# Altium footprint library footprints.PcbLib: 32 footprints (part 2 of 2)
Each footprint in its own frame and in the unit in brackets; x right, y up, seen from the top. Pads: shape width x height; smd on the part's side, far side on the other; paste and mask are expansions set on the pad; w line width, h text height; cw(c..) or ccw(c..) is an arc to the next point about the centre after c.
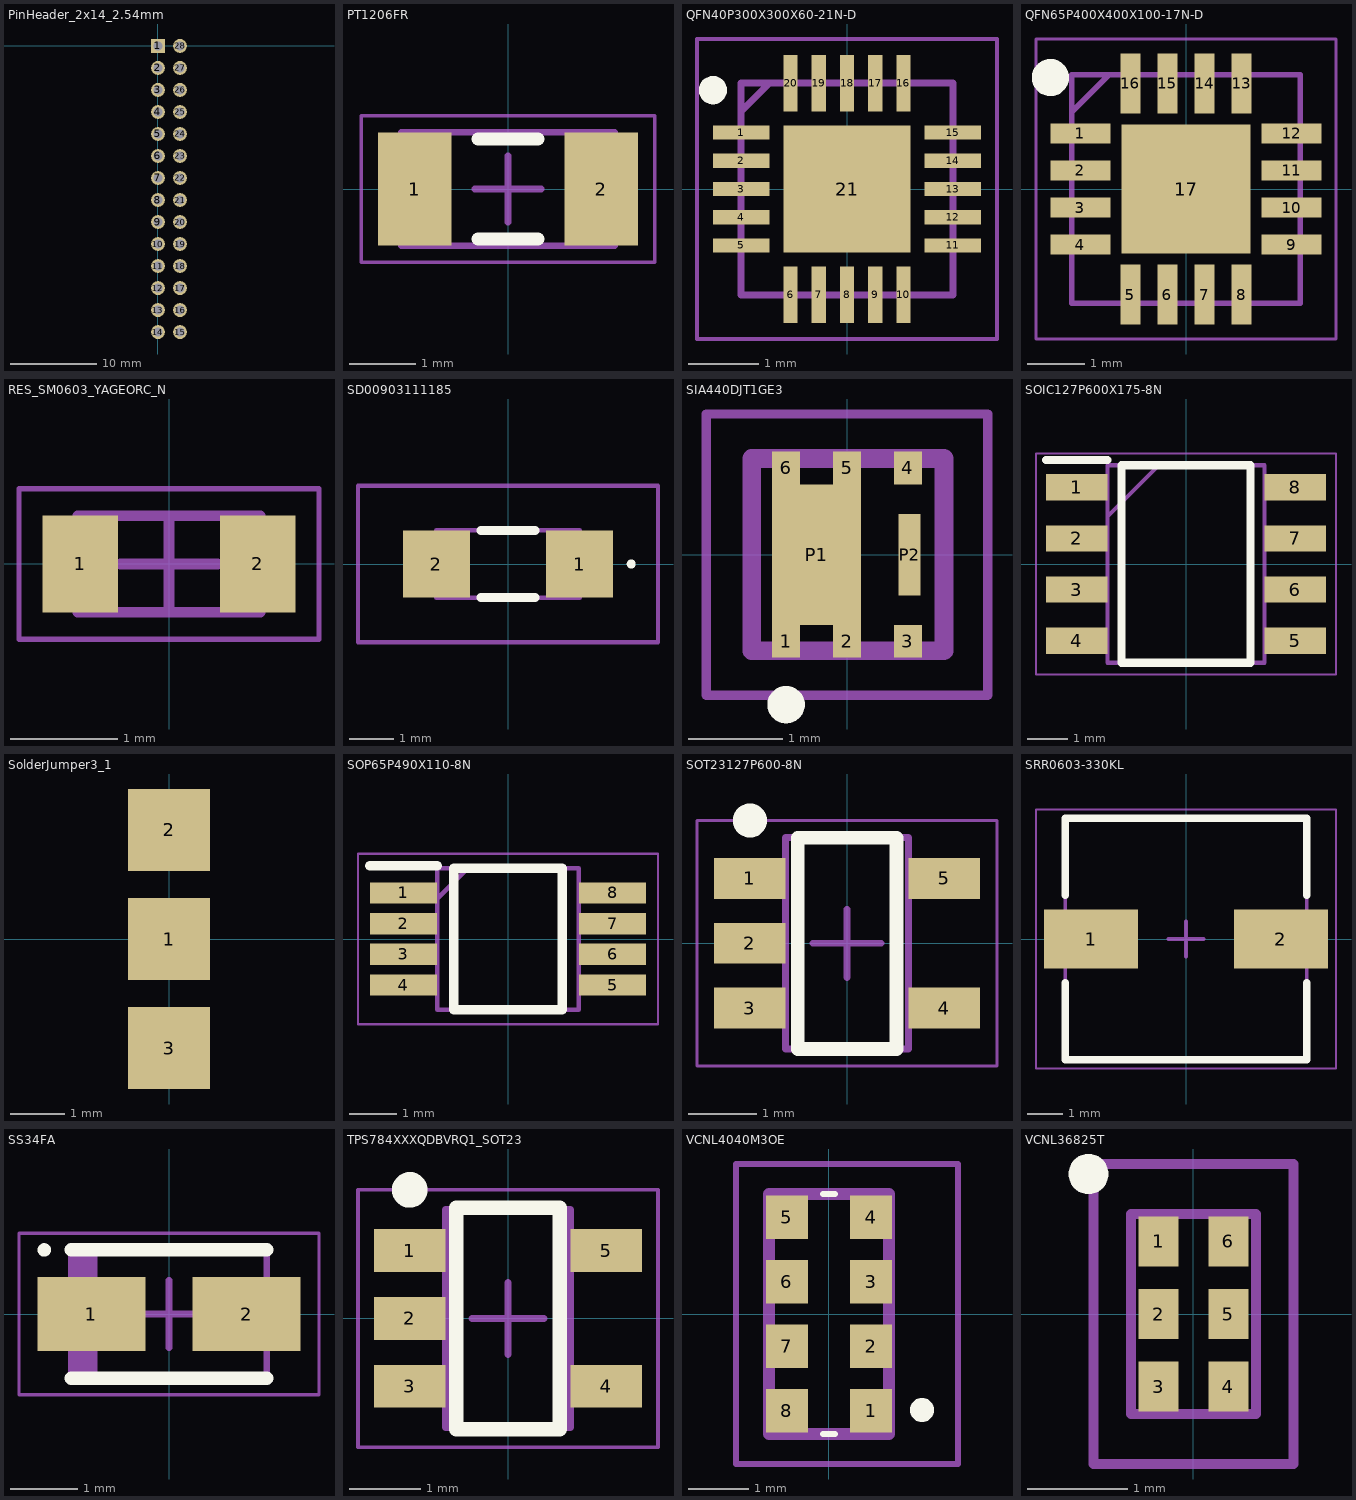
[diagram p1: the footprints below, top view; thin cyan lines are the x and y axes]

## PinHeader_2x14_2.54mm [mm]
pads (28):
  rect 1.6x1.6 hole 1.02: 1(0,0)
  round 1.6 hole 1.02: 2(0,-2.54) 3(0,-5.08) 4(0,-7.62) 5(0,-10.16) 6(0,-12.7) 7(0,-15.24) 8(0,-17.78) 9(0,-20.32) 10(0,-22.86) 11(0,-25.4) 12(0,-27.94) 13(0,-30.48) 14(0,-33.02) 15(2.54,-33.02) 16(2.54,-30.48) 17(2.54,-27.94) 18(2.54,-25.4) 19(2.54,-22.86) 20(2.54,-20.32) 21(2.54,-17.78) 22(2.54,-15.24) 23(2.54,-12.7) 24(2.54,-10.16) 25(2.54,-7.62) 26(2.54,-5.08) 27(2.54,-2.54) 28(2.54,0)

## PT1206FR [mm]
height 0.65
pads (2):
  rect 1.1x1.7 smd: 1(-1.4,0) 2(1.4,0)
Top Overlay:
  lines w0.2: -0.45,-0.75 0.45,-0.75 ; -0.45,0.75 0.45,0.75
Top Courtyard:
  lines w0.05: -2.2,-1.1 -2.2,1.1 2.2,1.1 2.2,-1.1 -2.2,-1.1
  lines w0.1: -0.5,0 0.5,0 ; 0,-0.5 0,0.5
Top Assembly:
  lines w0.1: -1.6,-0.85 -1.6,0.85 1.6,0.85 1.6,-0.85 -1.6,-0.85
3D body: height 0.65, standoff 0, extent -1.15,-0.85 1.15,0.85
3D body: height 0.65, standoff 0, extent -1.6,-0.85 -1.15,0.85
3D body: height 0.65, standoff 0, extent 1.15,-0.85 1.6,0.85

## QFN40P300X300X60-21N-D [mm]
pads (21):
  rect 0.8x0.2 smd: 1(-1.5,0.8) 2(-1.5,0.4) 3(-1.5,0) 4(-1.5,-0.4) 5(-1.5,-0.8) 11(1.5,-0.8) 12(1.5,-0.4) 13(1.5,0) 14(1.5,0.4) 15(1.5,0.8)
  rect 0.2x0.8 smd: 6(-0.8,-1.5) 7(-0.4,-1.5) 8(0,-1.5) 9(0.4,-1.5) 10(0.8,-1.5) 16(0.8,1.5) 17(0.4,1.5) 18(0,1.5) 19(-0.4,1.5) 20(-0.8,1.5)
  rect 1.8x1.8 smd: 21(0,0)
Top Overlay:
  circle w0.2: c-1.9,1.4 r0.1
Mechanical 15:
  lines w0.1: -1.5,1.1 -1.1,1.5 ; -1.5,-1.5 1.5,-1.5 1.5,1.5 -1.5,1.5 -1.5,-1.5
Mechanical 20:
  lines w0.05: -2.125,-2.125 2.125,-2.125 2.125,2.125 -2.125,2.125 -2.125,-2.125
3D body "MCP3561RT-E_NC.stp": height 0.6, standoff 0, extent -1.55,-1.55 1.55,1.55

## QFN65P400X400X100-17N-D [mm]
pads (17):
  rect 1.05x0.35 smd: 1(-1.85,0.975) 2(-1.85,0.325) 3(-1.85,-0.325) 4(-1.85,-0.975) 9(1.85,-0.975) 10(1.85,-0.325) 11(1.85,0.325) 12(1.85,0.975)
  rect 0.35x1.05 smd: 5(-0.975,-1.85) 6(-0.325,-1.85) 7(0.325,-1.85) 8(0.975,-1.85) 13(0.975,1.85) 14(0.325,1.85) 15(-0.325,1.85) 16(-0.975,1.85)
  rect 2.26x2.26 smd: 17(0,0)
Top Overlay:
  circle w0.325: c-2.375,1.95 r0.162
Mechanical 15:
  lines w0.1: -2,1.35 -1.35,2 ; -2,-2 -2,2 2,2 2,-2 -2,-2
Mechanical 20:
  lines w0.05: -2.625,-2.625 -2.625,2.625 2.625,2.625 2.625,-2.625 -2.625,-2.625
3D body "PCA9546ARGVR.stp": height 1, standoff 0, extent -1.988,-2.062 2.012,1.938

## RES_SM0603_YAGEORC_N [mm] "Resistor, Yageo RC_L, SM0603, IPC Medium Density"
height 0.55
pads (2):
  rect 0.7x0.9 smd: 1(-0.827,0) 2(0.827,0)
Mechanical 13:
  lines w0.1: -0.85,-0.45 -0.85,0.45 0.85,0.45 0.85,-0.45 -0.85,-0.45
Mechanical 15:
  lines w0.05: -1.397,-0.7 -1.397,0.7 1.397,0.7 1.397,-0.7 -1.397,-0.7
  lines w0.1: -0.45,0 0.45,0 ; 0,-0.45 0,0.45
3D body: height 0.55, standoff 0, extent -0.6,-0.45 0.6,0.45
3D body: height 0.55, standoff 0, extent -0.85,-0.45 -0.6,0.45
3D body: height 0.55, standoff 0, extent 0.6,-0.45 0.85,0.45

## SD00903111185 [mm]
pads (2):
  rect 1.5x1.5 smd: 1(1.6,0) 2(-1.6,0)
Top Overlay:
  lines w0.1: 2.7,0 cw(c2.75,0) 2.8,0 cw(c2.75,0) 2.7,0
  lines w0.2: -0.6,-0.75 0.6,-0.75 ; -0.6,0.75 0.6,0.75
Mechanical 15:
  lines w0.1: -1.6,-0.75 -1.6,0.75 1.6,0.75 1.6,-0.75 -1.6,-0.75
Mechanical 20:
  lines w0.1: -3.35,-1.75 -3.35,1.75 3.35,1.75 3.35,-1.75 -3.35,-1.75
3D body "SD0090-3111-185.stp": height 1.4, standoff 0, extent -2.2,-0.75 2.2,0.75

## SIA440DJT1GE3 [mm]
pads (8):
  rect 0.3x0.35 smd: 1(-0.65,-0.925) 2(0,-0.925) 3(0.65,-0.925) 4(0.65,0.925) 5(0,0.925) 6(-0.65,0.925)
  rect 0.95x1.5 smd: P1(-0.325,0)
  rect 0.235x0.87 smd: P2(0.668,0)
Top Overlay:
  lines w0.2: -0.65,-1.7 ccw(c-0.65,-1.6) -0.65,-1.5 ccw(c-0.65,-1.6) -0.65,-1.7
Mechanical 15:
  lines w0.2: -1.016,-1.025 -1.016,1.025 1.034,1.025 1.034,-1.025 -1.016,-1.025
Mechanical 20:
  lines w0.1: -1.5,-1.5 -1.5,1.5 1.5,1.5 1.5,-1.5 -1.5,-1.5
3D body "SIA440DJ-T1-GE3.stp": height 0.9, standoff 0, extent -1.016,-1.07 1.034,1.07

## SOIC127P600X175-8N [mm]
pads (8):
  rect 1.528x0.65 smd: 1(-2.711,1.905) 2(-2.711,0.635) 3(-2.711,-0.635) 4(-2.711,-1.905) 5(2.711,-1.905) 6(2.711,-0.635) 7(2.711,0.635) 8(2.711,1.905)
Top Overlay:
  lines w0.2: -3.475,2.58 -1.948,2.58 ; -1.598,-2.452 -1.598,2.452 1.598,2.452 1.598,-2.452 -1.598,-2.452
Mechanical 15:
  lines w0.1: -1.948,1.182 -0.678,2.452 ; -1.948,-2.452 -1.948,2.452 1.948,2.452 1.948,-2.452 -1.948,-2.452
Mechanical 20:
  lines w0.05: -3.725,-2.75 -3.725,2.75 3.725,2.75 3.725,-2.75 -3.725,-2.75
3D body "TLC272CDR.stp": height 1.63, standoff 0, extent -3.011,-2.451 3.011,2.451

## SolderJumper3_1 [mm]
pads (3):
  rect 1.5x1.5 smd: 1(0,0) 2(0,2) 3(0,-2)

## SOP65P490X110-8N [mm]
pads (8):
  rect 1.425x0.45 smd: 1(-2.212,0.975) 2(-2.212,0.325) 3(-2.212,-0.325) 4(-2.212,-0.975) 5(2.212,-0.975) 6(2.212,-0.325) 7(2.212,0.325) 8(2.212,0.975)
Top Overlay:
  lines w0.2: -2.925,1.55 -1.5,1.55 ; -1.15,-1.5 1.15,-1.5 1.15,1.5 -1.15,1.5 -1.15,-1.5
Mechanical 15:
  lines w0.1: -1.5,0.85 -0.85,1.5 ; -1.5,-1.5 1.5,-1.5 1.5,1.5 -1.5,1.5 -1.5,-1.5
Mechanical 20:
  lines w0.05: -3.175,-1.801 3.175,-1.801 3.175,1.801 -3.175,1.801 -3.175,-1.801
3D body "LTC1992CMS8#PBF.stp": height 1.1, standoff 0, extent -2.45,-1.5 2.45,1.5

## SOT23127P600-8N [mm]
height 1.45
pads (5):
  rect 1.05x0.6 smd: 1(-1.425,0.95) 2(-1.425,0) 3(-1.425,-0.95) 4(1.425,-0.95) 5(1.425,0.95)
Top Overlay:
  circle w0.25: c-1.425,1.8 r0.125
  lines w0.2: -0.725,-1.55 -0.725,1.55 0.725,1.55 0.725,-1.55 -0.725,-1.55
Top Courtyard:
  lines w0.05: -2.2,-1.8 2.2,-1.8 2.2,1.8 -2.2,1.8 -2.2,-1.8
  lines w0.1: -0.5,0 0.5,0 ; 0,-0.5 0,0.5
Top Assembly:
  lines w0.1: -0.9,-1.55 0.9,-1.55 0.9,1.55 -0.9,1.55 -0.9,-1.55
3D body: height 1.45, standoff 0.05, extent -0.9,-1.55 0.9,1.55

## SRR0603-330KL [mm] "Precision Wire Wound Inductor, 2-Leads, Body 6,50x6,50mm, IPC Medium Density"
height 4.9
pads (2):
  rect 2.65x1.65 smd: 1(-2.675,0) 2(2.675,0)
Top Overlay:
  lines w0.2: -3.4,-1.225 -3.4,-3.4 3.4,-3.4 3.4,-1.225 ; -3.4,1.225 -3.4,3.4 3.4,3.4 3.4,1.225
Top Courtyard:
  lines w0.05: -4.225,-3.65 4.225,-3.65 4.225,3.65 -4.225,3.65 -4.225,-3.65
  lines w0.1: -0.5,0 0.5,0 ; 0,-0.5 0,0.5
Mechanical 13:
  lines w0.1: -3.4,-3.4 3.4,-3.4 3.4,3.4 -3.4,3.4 -3.4,-3.4
3D body: height 4.9, standoff 0, extent -3.4,-3.4 3.4,3.4

## SS34FA [mm] "SS34FA Molded Diode, 2-Leads, Body 2,80x1,80mm, IPC Medium Density"
height 1.43
pads (2):
  rect 1.6x1.1 smd: 1(-1.15,0) 2(1.15,0)
Top Overlay:
  circle w0.1: c-1.85,0.95 r0.05
  lines w0.2: -1.45,-0.95 1.45,-0.95 ; -1.45,0.95 1.45,0.95
Top Courtyard:
  lines w0.05: -2.225,-1.2 -2.225,1.2 2.225,1.2 2.225,-1.2 -2.225,-1.2
  lines w0.1: -0.5,0 0.5,0 ; 0,-0.5 0,0.5
Mechanical 13:
  rectangle: -1.45,-0.95 -1.06,0.95
  lines w0.1: -1.45,-0.95 -1.45,0.95 1.45,0.95 1.45,-0.95 -1.45,-0.95
3D body: height 1.43, standoff 0, extent -1.45,-0.95 1.45,0.95

## TPS784XXXQDBVRQ1_SOT23 [mm] "SOT23, 5-Leads, Body 2,90x2,80mm, Pitch 0,95mm, IPC Medium Density"
height 1.45
pads (5):
  rect 1x0.6 smd: 1(-1.375,0.95) 2(-1.375,0) 3(-1.375,-0.95) 4(1.375,-0.95) 5(1.375,0.95)
Top Overlay:
  circle w0.25: c-1.375,1.8 r0.125
  lines w0.2: -0.725,-1.55 -0.725,1.55 0.725,1.55 0.725,-1.55 -0.725,-1.55
Top Courtyard:
  lines w0.05: -2.1,-1.8 2.1,-1.8 2.1,1.8 -2.1,1.8 -2.1,-1.8
  lines w0.1: -0.5,0 0.5,0 ; 0,-0.5 0,0.5
Mechanical 13:
  lines w0.1: -0.875,-1.525 0.875,-1.525 0.875,1.525 -0.875,1.525 -0.875,-1.525
3D body: height 1.45, standoff 0.05, extent -0.875,-1.525 0.875,1.525

## VCNL4040M3OE [mm]
pads (8):
  rect 0.7x0.725 smd: 1(0.7,-1.612) 2(0.7,-0.537) 3(0.7,0.538) 4(0.7,1.613) 5(-0.7,1.613) 6(-0.7,0.538) 7(-0.7,-0.537) 8(-0.7,-1.612)
Top Overlay:
  lines w0.1: -0.1,-2 0.1,-2 ; -0.1,2 0.1,2
  lines w0.2: 1.55,-1.7 cw(c1.55,-1.6) 1.55,-1.5 cw(c1.55,-1.6) 1.55,-1.7
Mechanical 15:
  lines w0.2: -1,-2 1,-2 1,2 -1,2 -1,-2
Mechanical 20:
  lines w0.1: -1.55,-2.5 2.15,-2.5 2.15,2.5 -1.55,2.5 -1.55,-2.5
3D body "VCNL4040M3OE.stp": height 1.25, standoff 0, extent -1,-2 1,2

## VCNL36825T [mm]
pads (6):
  rect 0.4x0.5 smd: 1(-0.35,0.725) 2(-0.35,0) 3(-0.35,-0.725) 4(0.35,-0.725) 5(0.35,0) 6(0.35,0.725)
Top Overlay:
  lines w0.2: -1.05,1.3 ccw(c-1.05,1.4) -1.05,1.5 ccw(c-1.05,1.4) -1.05,1.3
Mechanical 15:
  lines w0.1: -0.625,-1 0.625,-1 0.625,1 -0.625,1 -0.625,-1
Mechanical 20:
  lines w0.1: -1,-1.5 1,-1.5 1,1.5 -1,1.5 -1,-1.5
3D body "VCNL36825T.stp": height 0.7, standoff 0, extent -0.625,-1 0.625,1